# EAGLE library part LT1172 (library Linear Technology)
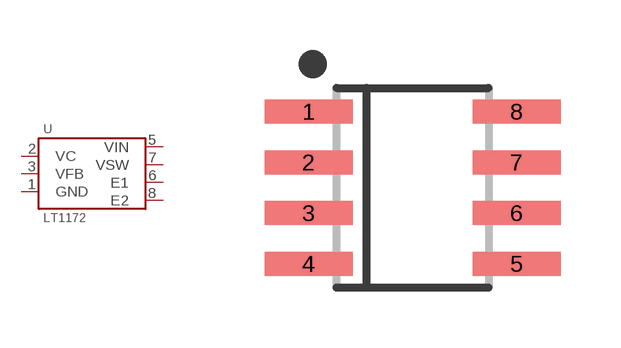
[diagram p1: symbol with the pads of SOIC-8; footprint SOIC-8]

Designator prefix U

## LT1172CS8#PBF  [SOIC-8]
1  GND
2  VC
3  VFB
5  VIN
6  E1
7  VSW
8  E2

## Footprint SOIC-8 (pad centres in mm)
smd 2.2 x 0.6: 1 -2.6,1.905; 2 -2.6,0.635; 3 -2.6,-0.635; 4 -2.6,-1.905; 5 2.6,-1.905; 6 2.6,-0.635; 7 2.6,0.635; 8 2.6,1.905